# Altium footprint library TLE4275D.PcbLib: 1 footprints
Each footprint in its own frame and in the unit in brackets; x right, y up, seen from the top. Pads: shape width x height; smd on the part's side, far side on the other; paste and mask are expansions set on the pad; w line width, h text height; cw(c..) or ccw(c..) is an arc to the next point about the centre after c.
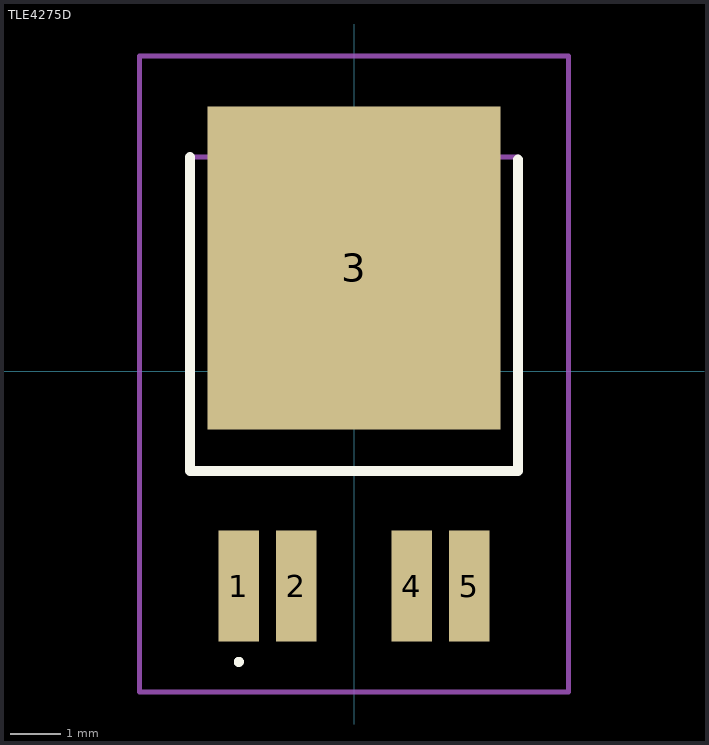
[diagram p0: the footprint, top view; thin cyan lines are the x and y axes]

## TLE4275D [mm]
pads (5):
  rect 0.8x2.2 smd: 1(-2.28,-4.25) 2(-1.14,-4.25) 4(1.14,-4.25) 5(2.28,-4.25)
  rect 5.8x6.4 smd: 3(0,2.05)
Top Overlay:
  lines w0.1: -2.28,-5.8 -2.28,-5.8 ; -2.28,-5.8 ccw(c-2.28,-5.75) -2.28,-5.7 ; -2.28,-5.8 cw(c-2.28,-5.75) -2.28,-5.7 ; -2.28,-5.7 -2.28,-5.7
  lines w0.2: -3.25,4.25 -3.25,-1.97 3.25,-1.97 3.25,4.2
Mechanical 15:
  lines w0.1: -3.25,-1.97 3.25,-1.97 3.25,4.25 -3.25,4.25 -3.25,-1.97
Mechanical 20:
  lines w0.1: -4.25,-6.35 4.25,-6.35 4.25,6.25 -4.25,6.25 -4.25,-6.35